# EAGLE library part AS-ITM-00377 (library tinycircuits)
IC LED DRIVER RGLTR DIM SOT23-6
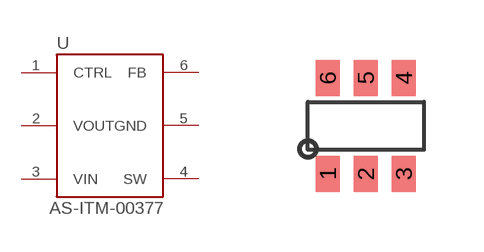
[diagram p154: symbol with the pads of SOT-23-6; footprint SOT-23-6]

Designator prefix U

## AS-ITM-00377 (PARTNO: AS-ITM-00377; PNPROTATION: 270; VALUE: AP3036B)  [SOT-23-6]
1  CTRL
2  VOUT
3  VIN
4  SW
5  GND
6  FB

## Footprint SOT-23-6 (pad centres in mm)
smd 0.6 x 0.9: 1 -0.95,-1.2; 2 0,-1.2; 3 0.95,-1.2; 4 0.95,1.2; 5 0,1.2; 6 -0.95,1.2